# EAGLE library part BSS138BKS (library NXP)
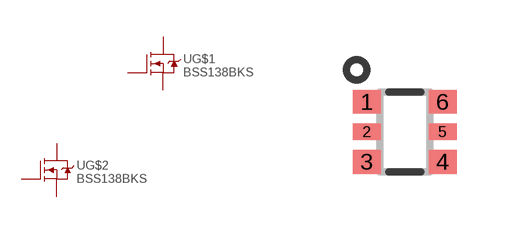
[diagram p2: symbol with the pads of TSSOP-6; footprint TSSOP-6]

Designator prefix -; gates G$1=BSS138 G$2=BSS138

## BSS138BKS,115  [TSSOP-6]
1  G$1:SOURCE
2  G$1:GATE
3  G$2:DRAIN
4  G$2:SOURCE
5  G$2:GATE
6  G$1:DRAIN

## Footprint TSSOP-6 (pad centres in mm)
smd 0.7 x 0.6: 1 -0.95,0.75; 3 -0.95,-0.75; 4 0.95,-0.75; 6 0.95,0.75
smd 0.7 x 0.4: 2 -0.95,0; 5 0.95,0